# Altium schematic symbol library BZD27C200PWH.SchLib: 1 symbol
Pins are listed as number, name and electrical type; pins without a type are passive.

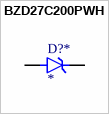
[diagram p0: symbol BZD27C200PWH]

## BZD27C200PWH
designator D?*
footprint PCBComponent_1
pins: A, C K